# Altium schematic symbol library TC33X-2-104E.SchLib: 1 symbol
Pins are listed as number, name and electrical type; pins without a type are passive.

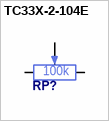
[diagram p0: symbol TC33X-2-104E]

## TC33X-2-104E
designator RP?  Resistance: 100k  (hidden comment: *)
pins: 1, 2, 3